# EAGLE library part DSPIC30F3012-20I/P (library Microchip_By_element14_Batch_1)
16-bit Digital Signal Controllers
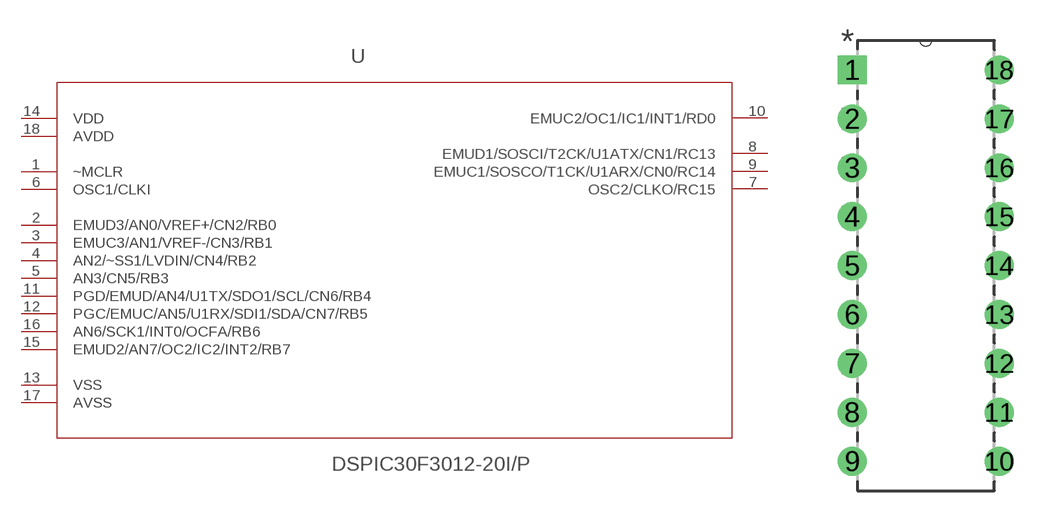
[diagram p292: symbol with the pads of DIP254P762X533-18; footprint DIP254P762X533-18]

Designator prefix -

## DSPIC30F3012-20I/P (MPN: DSPIC30F3012-20I/P; OC_FARNELL: 1467793; OC_NEWARK: 54K2748; PACKAGE: DIP-18; SUPPLIER: Microchip)  [DIP254P762X533-18]
1  ~MCLR  in
2  EMUD3/AN0/VREF+/CN2/RB0
3  EMUC3/AN1/VREF-/CN3/RB1
4  AN2/~SS1/LVDIN/CN4/RB2
5  AN3/CN5/RB3
6  OSC1/CLKI  in
7  OSC2/CLKO/RC15
8  EMUD1/SOSCI/T2CK/U1ATX/CN1/RC13
9  EMUC1/SOSCO/T1CK/U1ARX/CN0/RC14
10  EMUC2/OC1/IC1/INT1/RD0
11  PGD/EMUD/AN4/U1TX/SDO1/SCL/CN6/RB4
12  PGC/EMUC/AN5/U1RX/SDI1/SDA/CN7/RB5
13  VSS
14  VDD  pwr
15  EMUD2/AN7/OC2/IC2/INT2/RB7
16  AN6/SCK1/INT0/OCFA/RB6
17  AVSS  pwr
18  AVDD  pwr

## Footprint DIP254P762X533-18 (pad centres in mm)
drill 0.991 square: 1 -7.62,20.32
drill 0.991: 2 -7.62,17.78; 3 -7.62,15.24; 4 -7.62,12.7; 5 -7.62,10.16; 6 -7.62,7.62; 7 -7.62,5.08; 8 -7.62,2.54; 9 -7.62,0; 10 0,0; 11 0,2.54; 12 0,5.08; 13 0,7.62; 14 0,10.16; 15 0,12.7; 16 0,15.24; 17 0,17.78; 18 0,20.32